# EAGLE library part SULLINS_1MM_6P_HEADER (library formula electric)
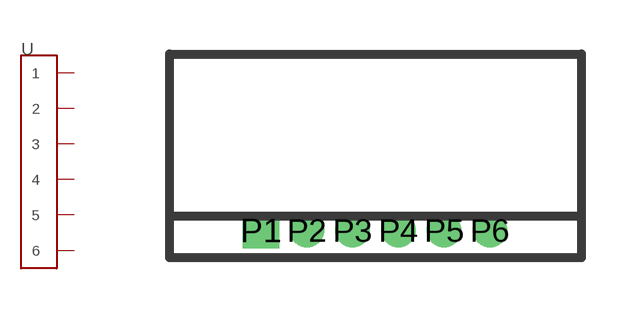
[diagram p13: symbol with the pads of SULLINS_1MM_HEADER; footprint SULLINS_1MM_HEADER]

Designator prefix -

## SULLINS_1MM_6P_HEADER  [SULLINS_1MM_HEADER]
P1  1
P2  2
P3  3
P4  4
P5  5
P6  6

## Footprint SULLINS_1MM_HEADER (pad centres in mm)
drill 0.5 pad 0.61 square: P1 0,0
drill 0.45 pad 0.61: P2 1.27,0; P3 2.54,0; P4 3.81,0; P5 5.08,0; P6 6.35,0